# Altium footprint library CM3588.PcbLib: 1 footprints
Each footprint in its own frame and in the unit in brackets; x right, y up, seen from the top. Pads: shape width x height; smd on the part's side, far side on the other; paste and mask are expansions set on the pad; w line width, h text height; cw(c..) or ccw(c..) is an arc to the next point about the centre after c.
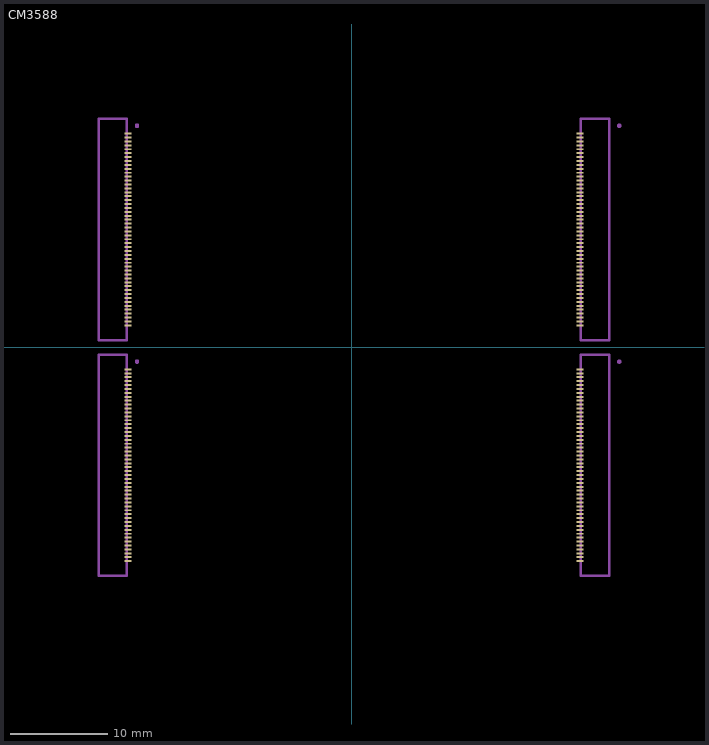
[diagram p0: the footprint, top view; thin cyan lines are the x and y axes]

## CM3588 [mm]
pads (200):
  rect 0.7x0.2 smd: 1(-22.884,21.851) 3(-22.884,21.451) 5(-22.884,21.051) 7(-22.884,20.651) 9(-22.884,20.251) 11(-22.884,19.851) 13(-22.884,19.451) 15(-22.884,19.051) 17(-22.884,18.651) 19(-22.884,18.251) 21(-22.884,17.851) 23(-22.884,17.451) 25(-22.884,17.051) 27(-22.884,16.651) 29(-22.884,16.251) 31(-22.884,15.851) 33(-22.884,15.451) 35(-22.884,15.051) 37(-22.884,14.651) 39(-22.884,14.251) 41(-22.884,13.851) 43(-22.884,13.451) 45(-22.884,13.051) 47(-22.884,12.651) 49(-22.884,12.251) 51(-22.884,11.851) 53(-22.884,11.451) 55(-22.884,11.051) 57(-22.884,10.651) 59(-22.884,10.251) 61(-22.884,9.851) 63(-22.884,9.451) 65(-22.884,9.051) 67(-22.884,8.651) 69(-22.884,8.251) 71(-22.884,7.851) 73(-22.884,7.451) 75(-22.884,7.051) 77(-22.884,6.651) 79(-22.884,6.251) 81(-22.884,5.851) 83(-22.884,5.451) 85(-22.884,5.051) 87(-22.884,4.651) 89(-22.884,4.251) 91(-22.884,3.851) 93(-22.884,3.451) 95(-22.884,3.051) 97(-22.884,2.651) 99(-22.884,2.251) 102(23.326,21.851) 104(23.326,21.451) 106(23.326,21.051) 108(23.326,20.651) 110(23.326,20.251) 112(23.326,19.851) 114(23.326,19.451) 116(23.326,19.051) 118(23.326,18.651) 120(23.326,18.251) 122(23.326,17.851) 124(23.326,17.451) 126(23.326,17.051) 128(23.326,16.651) 130(23.326,16.251) 132(23.326,15.851) 134(23.326,15.451) 136(23.326,15.051) 138(23.326,14.651) 140(23.326,14.251) 142(23.326,13.851) 144(23.326,13.451) 146(23.326,13.051) 148(23.326,12.651) 150(23.326,12.251) 152(23.326,11.851) 154(23.326,11.451) 156(23.326,11.051) 158(23.326,10.651) 160(23.326,10.251) 162(23.326,9.851) 164(23.326,9.451) 166(23.326,9.051) 168(23.326,8.651) 170(23.326,8.251) 172(23.326,7.851) 174(23.326,7.451) 176(23.326,7.051) 178(23.326,6.651) 180(23.326,6.251) 182(23.326,5.851) 184(23.326,5.451) 186(23.326,5.051) 188(23.326,4.651) 190(23.326,4.251) 192(23.326,3.851) 194(23.326,3.451) 196(23.326,3.051) 198(23.326,2.651) 200(23.326,2.251) 201(-22.884,-2.251) 203(-22.884,-2.651) 205(-22.884,-3.051) 207(-22.884,-3.451) 209(-22.884,-3.851) 211(-22.884,-4.251) 213(-22.884,-4.651) 215(-22.884,-5.051) 217(-22.884,-5.451) 219(-22.884,-5.851) 221(-22.884,-6.251) 223(-22.884,-6.651) 225(-22.884,-7.051) 227(-22.884,-7.451) 229(-22.884,-7.851) 231(-22.884,-8.251) 233(-22.884,-8.651) 235(-22.884,-9.051) 237(-22.884,-9.451) 239(-22.884,-9.851) 241(-22.884,-10.251) 243(-22.884,-10.651) 245(-22.884,-11.051) 247(-22.884,-11.451) 249(-22.884,-11.851) 251(-22.884,-12.251) 253(-22.884,-12.651) 255(-22.884,-13.051) 257(-22.884,-13.451) 259(-22.884,-13.851) 261(-22.884,-14.251) 263(-22.884,-14.651) 265(-22.884,-15.051) 267(-22.884,-15.451) 269(-22.884,-15.851) 271(-22.884,-16.251) 273(-22.884,-16.651) 275(-22.884,-17.051) 277(-22.884,-17.451) 279(-22.884,-17.851) 281(-22.884,-18.251) 283(-22.884,-18.651) 285(-22.884,-19.051) 287(-22.884,-19.451) 289(-22.884,-19.851) 291(-22.884,-20.251) 293(-22.884,-20.651) 295(-22.884,-21.051) 297(-22.884,-21.451) 299(-22.884,-21.851) 302(23.326,-2.251) 304(23.326,-2.651) 306(23.326,-3.051) 308(23.326,-3.451) 310(23.326,-3.851) 312(23.326,-4.251) 314(23.326,-4.651) 316(23.326,-5.051) 318(23.326,-5.451) 320(23.326,-5.851) 322(23.326,-6.251) 324(23.326,-6.651) 326(23.326,-7.051) 328(23.326,-7.451) 330(23.326,-7.851) 332(23.326,-8.251) 334(23.326,-8.651) 336(23.326,-9.051) 338(23.326,-9.451) 340(23.326,-9.851) 342(23.326,-10.251) 344(23.326,-10.651) 346(23.326,-11.051) 348(23.326,-11.451) 350(23.326,-11.851) 352(23.326,-12.251) 354(23.326,-12.651) 356(23.326,-13.051) 358(23.326,-13.451) 360(23.326,-13.851) 362(23.326,-14.251) 364(23.326,-14.651) 366(23.326,-15.051) 368(23.326,-15.451) 370(23.326,-15.851) 372(23.326,-16.251) 374(23.326,-16.651) 376(23.326,-17.051) 378(23.326,-17.451) 380(23.326,-17.851) 382(23.326,-18.251) 384(23.326,-18.651) 386(23.326,-19.051) 388(23.326,-19.451) 390(23.326,-19.851) 392(23.326,-20.251) 394(23.326,-20.651) 396(23.326,-21.051) 398(23.326,-21.451) 400(23.326,-21.851)
Edge.Cuts:
  circle w0.254: c24.758,-32.212 r1.6
  circle w0.254: c24.733,26.792 r1.6
  circle w0.254: c-24.255,26.769 r1.6
  circle w0.254: c-24.289,-32.237 r1.6
F.Mask:
  circle w0.254: c24.758,-32.212 r3
  circle w0.254: c24.733,26.792 r3
  circle w0.254: c-24.255,26.769 r3
  circle w0.254: c-24.289,-32.237 r3
  region: 25.229,-29.24 25.688,-29.35 26.124,-29.53 26.527,-29.777 26.886,-30.084 27.193,-30.443 27.439,-30.846 27.62,-31.282 27.73,-31.741 27.767,-32.212 27.73,-32.682 27.62,-33.142 27.439,-33.578 27.193,-33.981 26.886,-34.34 26.527,-34.646 26.124,-34.893 25.688,-35.074 25.229,-35.184 24.758,-35.221 24.287,-35.184 23.828,-35.074 23.392,-34.893 22.989,-34.646 22.63,-34.34 22.323,-33.981 22.077,-33.578 21.896,-33.142 21.786,-32.682 21.749,-32.212 21.786,-31.741 21.896,-31.282 22.077,-30.846 22.323,-30.443 22.63,-30.084 22.989,-29.777 23.392,-29.53 23.828,-29.35 24.287,-29.24 24.758,-29.202
  region: 25.203,29.765 25.662,29.654 26.099,29.474 26.501,29.227 26.86,28.92 27.167,28.561 27.414,28.159 27.595,27.722 27.705,27.263 27.742,26.792 27.705,26.322 27.595,25.863 27.414,25.426 27.167,25.024 26.86,24.665 26.501,24.358 26.099,24.111 25.662,23.93 25.203,23.82 24.733,23.783 24.262,23.82 23.803,23.93 23.366,24.111 22.964,24.358 22.605,24.665 22.298,25.024 22.051,25.426 21.871,25.863 21.76,26.322 21.723,26.792 21.76,27.263 21.871,27.722 22.051,28.159 22.298,28.561 22.605,28.92 22.964,29.227 23.366,29.474 23.803,29.654 24.262,29.765 24.733,29.802
  region: -23.784,29.741 -23.325,29.631 -22.889,29.45 -22.486,29.203 -22.127,28.896 -21.82,28.537 -21.574,28.135 -21.393,27.698 -21.283,27.239 -21.246,26.769 -21.283,26.298 -21.393,25.839 -21.574,25.402 -21.82,25 -22.127,24.641 -22.486,24.334 -22.889,24.087 -23.325,23.907 -23.784,23.796 -24.255,23.759 -24.726,23.796 -25.185,23.907 -25.621,24.087 -26.024,24.334 -26.383,24.641 -26.69,25 -26.936,25.402 -27.117,25.839 -27.227,26.298 -27.264,26.769 -27.227,27.239 -27.117,27.698 -26.936,28.135 -26.69,28.537 -26.383,28.896 -26.024,29.203 -25.621,29.45 -25.185,29.631 -24.726,29.741 -24.255,29.778
  region: -23.819,-29.265 -23.36,-29.375 -22.923,-29.556 -22.521,-29.803 -22.162,-30.109 -21.855,-30.468 -21.608,-30.871 -21.427,-31.307 -21.317,-31.766 -21.28,-32.237 -21.317,-32.708 -21.427,-33.167 -21.608,-33.603 -21.855,-34.006 -22.162,-34.365 -22.521,-34.672 -22.923,-34.918 -23.36,-35.099 -23.819,-35.209 -24.289,-35.246 -24.76,-35.209 -25.219,-35.099 -25.656,-34.918 -26.058,-34.672 -26.417,-34.365 -26.724,-34.006 -26.971,-33.603 -27.151,-33.167 -27.262,-32.708 -27.299,-32.237 -27.262,-31.766 -27.151,-31.307 -26.971,-30.871 -26.724,-30.468 -26.417,-30.109 -26.058,-29.803 -25.656,-29.556 -25.219,-29.375 -24.76,-29.265 -24.289,-29.228
F.SilkS:
  circle w0.254: c27.346,-1.451 r0.1
  circle w0.254: c27.346,22.651 r0.1
  circle w0.254: c-21.944,-1.451 r0.1
  circle w0.254: c-21.944,22.651 r0.1
  lines w0.254: -27.27,-32.223 -27.27,26.78 ; -25.864,-22.271 -25.864,-23.351 -22.984,-23.351 -22.984,-22.271 ; -25.864,-1.831 -25.864,-0.751 -22.984,-0.751 -22.984,-1.831 ; -25.864,1.831 -25.864,0.751 -22.984,0.751 -22.984,1.831 ; -25.864,22.271 -25.864,23.351 -22.984,23.351 -22.984,22.271 ; -24.272,-35.221 24.732,-35.221 ; -24.27,29.78 17.784,29.78 ; -22.972,-0.757 -22.972,-0.747 ; -22.972,23.343 -22.972,23.353 ; 17.785,29.781 24.731,29.781 ; 23.426,-22.271 23.426,-23.351 26.306,-23.351 26.306,-22.271 ; 23.426,-1.831 23.426,-0.751 26.306,-0.751 26.306,-1.831 ; 23.426,1.831 23.426,0.751 26.306,0.751 26.306,1.831 ; 23.426,22.271 23.426,23.351 26.306,23.351 26.306,22.271 ; 26.318,-0.758 26.318,-0.748 ; 26.32,23.342 26.32,23.352 ; 27.731,-32.222 27.731,26.782
  text "CON1" at -20.9,22.316 h1
  text "CON2" at 18,21.516 h1
  text "CON3" at -20.6,-2.786 h1
  text "CON4" at 18,-2.684 h1
F.Paste:
  drawing of 2000 lines, arcs and shapes, not listed
F.Fab:
  circle w0.254: c27.346,-1.451 r0.1
  circle w0.254: c27.346,22.651 r0.1
  circle w0.254: c-21.944,-1.451 r0.1
  circle w0.254: c-21.944,22.651 r0.1
  lines w0.254: -25.864,-23.351 -22.984,-23.351 -22.984,-0.751 -25.864,-0.751 -25.864,-23.351 ; -25.864,0.751 -25.864,23.351 -22.984,23.351 -22.984,0.751 -25.864,0.751 ; 23.426,-23.351 26.306,-23.351 26.306,-0.751 23.426,-0.751 23.426,-23.351 ; 23.426,0.751 26.306,0.751 26.306,23.351 23.426,23.351 23.426,0.751
  text "'.Designator'" at -8.636,11.049 h1
  text "'.Designator'" at 21.209,10.287 h1